# EAGLE library part HCPL2630 (library ic)
High CMR, High Speed TTL Compatible optocuplers Hewlett-Packard HCPL-2630 HCPL-2631
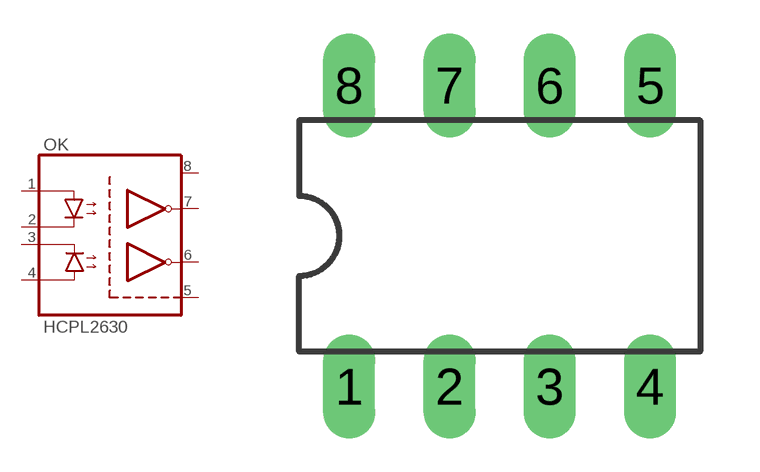
[diagram p3: symbol with the pads of DIL-8; footprint DIL-8]

Designator prefix OK

## HCPL2630D  [DIL-8]
1  ANODE1  in
2  KATHODE1  in
3  KATHODE2  in
4  ANODE2  in
5  GND  pwr
6  VOUT2  out
7  VOUT1  out
8  VCC  pwr

## Footprint DIL-8 (pad centres in mm)
Dual In Line Package
drill 0.813 long: 1 -3.81,-3.81; 2 -1.27,-3.81; 3 1.27,-3.81; 4 3.81,-3.81; 5 3.81,3.81; 6 1.27,3.81; 7 -1.27,3.81; 8 -3.81,3.81